# Altium schematic symbol library 5227161-2.SchLib: 1 symbol
Pins are listed as number, name and electrical type; pins without a type are passive.

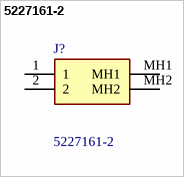
[diagram p0: symbol 5227161-2]

## 5227161-2
designator J?
Body Features: Body Material Zinc | Body Plating Material Nickel | Configuration Features: Number of Positions 1 | PCB Mount Orientation Right Angle | Number of Coaxial Contacts 1 | Contact Features: RF Connector Center Contact Plating Material Tin | RF Connector Center Contact Plating Thickness 5080 MICIN | RF Connector Center Contact Underplating Material Nickel | RF Connector Center Contact Material Phosphor Bronze | Dimensions: Profile Height from PCB .625 INCH | Mounting Post Length 3.48 MM | RF Connec; Manufacturer_Name: TE Connectivity; Geometry.Height: 15.88mm; Mouser Part Number: 571-5227161-2; Mouser Price/Stock: https://www.mouser.co.uk/ProductDetail/TE-Connectivity/5227161-2?qs=GSeC4G%252BEqEVBN3%2FeI6hwoQ%3D%3D; Manufacturer_Part_Number: 5227161-2; Datasheet Link: https://www.te.com/commerce/DocumentDelivery/DDEController?Action=srchrtrv&DocNm=1307191_BNC_Connectors&DocType=Catalog%20Section&DocLang=English&PartCntxt=5227161-2&DocFormat=pdf
footprint 52271612
pins: 1, 2, MH1, MH2